# Altium schematic symbol library WL-SISW.SchLib: 10 symbols
Pins are listed as number, name and electrical type; pins without a type are passive.

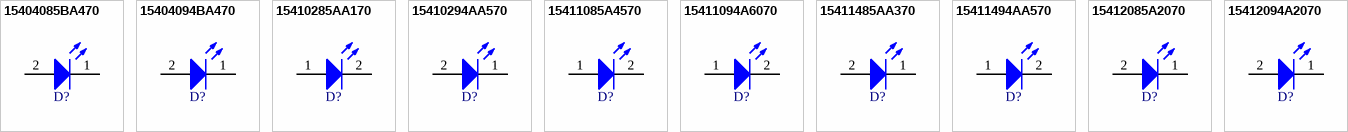
[diagram p0: symbols 15404085BA470 to 15412094A2070]

## 15404085BA470
designator D?, comment Infrared, 1.6V, 140°  (value not drawn)
WL-SISW SMT Infrared Sideview LED Waterclear, size 0402, Infrared, 1.6V, 140°; Manufacturer Part Number: 15404085BA470; Manufacturer: Wurth Elektronik; Case/Size Code: 0402; Centroid Wavelength: 845nm; Chip Technology: AlGaAs; Forward Voltage Max: 2V; Peak Wavelength: 850nm; Radiant Intensity: 1.5mW/sr; Radiant Intensity Min: 0.1mW/sr; Category: Infrared LEDs; Match Code: WL-SISW; ComponentLink1Description: Website Link; ComponentLink1URL: https://www.we-online.com/redexpert/article/15404085BA470?ad; ComponentLink2Description: Datasheet Link; ComponentLink2URL: https://www.we-online.com/redexpert/spec/15404085BA470?ad; Mount: Surface Mount; Operating Temperature Max: 85°C; Operating Temperature Min: -40°C; Packaging: Tape and Reel; Length: 1mm; Width: 0.55mm; Height: 0.3mm; Emitting Color: Infrared; Forward Voltage: 1.6V; Viewing Angle: 140°
footprint WL-SISW_0402
simulation model 0402_15404085BA470
pins: 1 K, 2 A

## 15404094BA470
designator D?, comment Infrared, 1.4V, 140°  (value not drawn)
WL-SISW SMT Infrared Sideview LED Waterclear, size 0402, Infrared, 1.4V, 140°; Manufacturer Part Number: 15404094BA470; Manufacturer: Wurth Elektronik; Case/Size Code: 0402; Centroid Wavelength: 940nm; Chip Technology: AlGaAs; Forward Voltage Max: 2V; Radiant Intensity: 1mW/sr; Radiant Intensity Min: 0.1mW/sr; Category: Infrared LEDs; Match Code: WL-SISW; ComponentLink1Description: Website Link; ComponentLink1URL: https://www.we-online.com/redexpert/article/15404094BA470?ad; ComponentLink2Description: Datasheet Link; ComponentLink2URL: https://www.we-online.com/redexpert/spec/15404094BA470?ad; Mount: Surface Mount; Operating Temperature Max: 85°C; Operating Temperature Min: -40°C; Packaging: Tape and Reel; Length: 1mm; Width: 0.55mm; Height: 0.3mm; Emitting Color: Infrared; Forward Voltage: 1.4V; Peak Wavelength: 940nm; Viewing Angle: 140°
footprint WL-SISW_0402
simulation model 0402_15404094BA470
pins: 1 K, 2 A

## 15410285AA170
designator D?, comment Infrared, 1.4V, 110°  (value not drawn)
WL-SISW SMT Infrared Sideview LED Waterclear, size 1002, Infrared, 1.4V, 110°; Manufacturer Part Number: 15410285AA170; Manufacturer: Wurth Elektronik; Case/Size Code: 1002; Centroid Wavelength: 845nm; Chip Technology: AlGaAs; Forward Voltage Max: 1.8V; Peak Wavelength: 850nm; Radiant Intensity: 5mW/sr; Radiant Intensity Min: 2mW/sr; Category: Infrared LEDs; Match Code: WL-SISW; ComponentLink1Description: Website Link; ComponentLink1URL: https://www.we-online.com/redexpert/article/15410285AA170?ad; ComponentLink2Description: Datasheet Link; ComponentLink2URL: https://www.we-online.com/redexpert/spec/15410285AA170?ad; Mount: Surface Mount; Operating Temperature Max: 85°C; Operating Temperature Min: -40°C; Packaging: Tape and Reel; Length: 2.4mm; Width: 1.39mm; Height: 0.6mm; Emitting Color: Infrared; Forward Voltage: 1.4V; Viewing Angle: 110°
footprint WL-SISW_1002
simulation model 1002_15410285AA170
pins: 1 A, 2 K

## 15410294AA570
designator D?, comment Infrared, 1.2V, 150°  (value not drawn)
WL-SISW SMT Infrared Sideview LED Waterclear, size 1002, Infrared, 1.2V, 150°; Manufacturer Part Number: 15410294AA570; Manufacturer: Wurth Elektronik; Case/Size Code: 1002; Centroid Wavelength: 940nm; Chip Technology: AlGaAs; Forward Voltage Max: 1.8V; Radiant Intensity: 1.5mW/sr; Radiant Intensity Min: 1mW/sr; Category: Infrared LEDs; Match Code: WL-SISW; ComponentLink1Description: Website Link; ComponentLink1URL: https://www.we-online.com/redexpert/article/15410294AA570?ad; ComponentLink2Description: Datasheet Link; ComponentLink2URL: https://www.we-online.com/redexpert/spec/15410294AA570?ad; Mount: Surface Mount; Operating Temperature Max: 85°C; Operating Temperature Min: -40°C; Packaging: Tape and Reel; Length: 2.4mm; Width: 1.39mm; Height: 0.6mm; Emitting Color: Infrared; Forward Voltage: 1.2V; Peak Wavelength: 940nm; Viewing Angle: 150°
footprint WL-SISW_1002
simulation model 1002_15410294AA570
pins: 1 K, 2 A

## 15411085A4570
designator D?, comment Infrared, 1.4V, 45°  (value not drawn)
WL-SISW SMT Infrared Sideview LED Waterclear, size 1106, Infrared, 1.4V, 45°; Manufacturer Part Number: 15411085A4570; Manufacturer: Wurth Elektronik; Case/Size Code: 1106; Centroid Wavelength: 845nm; Chip Technology: AlGaAs; Forward Voltage Max: 1.8V; Peak Wavelength: 850nm; Radiant Intensity: 11mW/sr; Radiant Intensity Min: 6mW/sr; Category: Infrared LEDs; Match Code: WL-SISW; ComponentLink1Description: Website Link; ComponentLink1URL: https://www.we-online.com/redexpert/article/15411085A4570?ad; ComponentLink2Description: Datasheet Link; ComponentLink2URL: https://www.we-online.com/redexpert/spec/15411085A4570?ad; Mount: Surface Mount; Operating Temperature Max: 85°C; Operating Temperature Min: -40°C; Packaging: Tape and Reel; Length: 3mm; Width: 2.34mm; Height: 1.6mm; Emitting Color: Infrared; Forward Voltage: 1.4V; Viewing Angle: 45°
footprint WL-SISW_1106
simulation model 1106_15411085A4570
pins: 1 A, 2 K

## 15411094A6070
designator D?, comment Infrared, 1.2V, 60°  (value not drawn)
WL-SISW SMT Infrared Sideview LED Waterclear, size 1106, Infrared, 1.2V, 60°; Manufacturer Part Number: 15411094A6070; Manufacturer: Wurth Elektronik; Case/Size Code: 1106; Centroid Wavelength: 940nm; Chip Technology: AlGaAs; Forward Voltage Max: 1.8V; Radiant Intensity: 6mW/sr; Radiant Intensity Min: 4mW/sr; Category: Infrared LEDs; Match Code: WL-SISW; ComponentLink1Description: Website Link; ComponentLink1URL: https://www.we-online.com/redexpert/article/15411094A6070?ad; ComponentLink2Description: Datasheet Link; ComponentLink2URL: https://www.we-online.com/redexpert/spec/15411094A6070?ad; Mount: Surface Mount; Operating Temperature Max: 85°C; Operating Temperature Min: -40°C; Packaging: Tape and Reel; Length: 3mm; Width: 2.34mm; Height: 1.6mm; Emitting Color: Infrared; Forward Voltage: 1.2V; Peak Wavelength: 940nm; Viewing Angle: 60°
footprint WL-SISW_1106
simulation model 1106_15411094A6070
pins: 1 A, 2 K

## 15411485AA370
designator D?, comment Infrared, 1.4V, 130°  (value not drawn)
WL-SISW SMT Infrared Sideview LED Waterclear, size 1104, Infrared, 1.4V, 130°; Manufacturer Part Number: 15411485AA370; Manufacturer: Wurth Elektronik; Case/Size Code: 1104; Centroid Wavelength: 845nm; Chip Technology: AlGaAs; Forward Voltage Max: 2V; Peak Wavelength: 850nm; Radiant Intensity: 2mW/sr; Radiant Intensity Min: 1mW/sr; Category: Infrared LEDs; Match Code: WL-SISW; ComponentLink1Description: Website Link; ComponentLink1URL: https://www.we-online.com/redexpert/article/15411485AA370?ad; ComponentLink2Description: Datasheet Link; ComponentLink2URL: https://www.we-online.com/redexpert/spec/15411485AA370?ad; Mount: Surface Mount; Operating Temperature Max: 85°C; Operating Temperature Min: -40°C; Packaging: Tape and Reel; Length: 3mm; Width: 2mm; Height: 1mm; Emitting Color: Infrared; Forward Voltage: 1.4V; Viewing Angle: 130°
footprint WL-SISW_1104
simulation model 1104_15411485AA370
pins: 1 K, 2 A

## 15411494AA570
designator D?, comment Infrared, 1.2V, 150°  (value not drawn)
WL-SISW SMT Infrared Sideview LED Waterclear, size 1104, Infrared, 1.2V, 150°; Manufacturer Part Number: 15411494AA570; Manufacturer: Wurth Elektronik; Case/Size Code: 1104; Centroid Wavelength: 940nm; Chip Technology: AlGaAs; Forward Voltage Max: 1.7V; Radiant Intensity: 1mW/sr; Radiant Intensity Min: 0.5mW/sr; Category: Infrared LEDs; Match Code: WL-SISW; ComponentLink1Description: Website Link; ComponentLink1URL: https://www.we-online.com/redexpert/article/15411494AA570?ad; ComponentLink2Description: Datasheet Link; ComponentLink2URL: https://www.we-online.com/redexpert/spec/15411494AA570?ad; Mount: Surface Mount; Operating Temperature Max: 85°C; Operating Temperature Min: -40°C; Packaging: Tape and Reel; Length: 3mm; Width: 2mm; Height: 1mm; Emitting Color: Infrared; Forward Voltage: 1.2V; Peak Wavelength: 940nm; Viewing Angle: 150°
footprint WL-SISW_1104
simulation model 1104_15411494AA570
pins: 1 A, 2 K

## 15412085A2070
designator D?, comment Infrared, 1.4V, 20°  (value not drawn)
WL-SISW SMT Infrared Sideview LED Waterclear, size 1206, Infrared, 1.4V, 20°; Manufacturer Part Number: 15412085A2070; Manufacturer: Wurth Elektronik; Case/Size Code: 1206; Centroid Wavelength: 845nm; Chip Technology: AlGaAs; Forward Voltage Max: 2V; Peak Wavelength: 850nm; Radiant Intensity: 12mW/sr; Radiant Intensity Min: 7mW/sr; Category: Infrared LEDs; Match Code: WL-SISW; ComponentLink1Description: Website Link; ComponentLink1URL: https://www.we-online.com/redexpert/article/15412085A2070?ad; ComponentLink2Description: Datasheet Link; ComponentLink2URL: https://www.we-online.com/redexpert/spec/15412085A2070?ad; Mount: Surface Mount; Operating Temperature Max: 85°C; Operating Temperature Min: -40°C; Packaging: Tape and Reel; Length: 3.2mm; Width: 2.55mm; Height: 1.6mm; Emitting Color: Infrared; Forward Voltage: 1.4V; Viewing Angle: 20°
footprint WL-SISW_1206
simulation model 1206_15412085A2070
pins: 1 K, 2 A

## 15412094A2070
designator D?, comment Infrared, 1.2V, 20°  (value not drawn)
WL-SISW SMT Infrared Sideview LED Waterclear, size 1206, Infrared, 1.2V, 20°; Manufacturer Part Number: 15412094A2070; Manufacturer: Wurth Elektronik; Case/Size Code: 1206; Centroid Wavelength: 940nm; Chip Technology: AlGaAs; Forward Voltage Max: 2V; Radiant Intensity: 6mW/sr; Radiant Intensity Min: 3mW/sr; Category: Infrared LEDs; Match Code: WL-SISW; ComponentLink1Description: Website Link; ComponentLink1URL: https://www.we-online.com/redexpert/article/15412094A2070?ad; ComponentLink2Description: Datasheet Link; ComponentLink2URL: https://www.we-online.com/redexpert/spec/15412094A2070?ad; Mount: Surface Mount; Operating Temperature Max: 85°C; Operating Temperature Min: -40°C; Packaging: Tape and Reel; Length: 3.2mm; Width: 2.55mm; Height: 1.6mm; Emitting Color: Infrared; Forward Voltage: 1.2V; Peak Wavelength: 940nm; Viewing Angle: 20°
footprint WL-SISW_1206
simulation model 1206_15412094A2070
pins: 1 K, 2 A